# Altium footprint library SamacSys.PcbLib: 13 footprints
Each footprint in its own frame and in the unit in brackets; x right, y up, seen from the top. Pads: shape width x height; smd on the part's side, far side on the other; paste and mask are expansions set on the pad; w line width, h text height; cw(c..) or ccw(c..) is an arc to the next point about the centre after c.
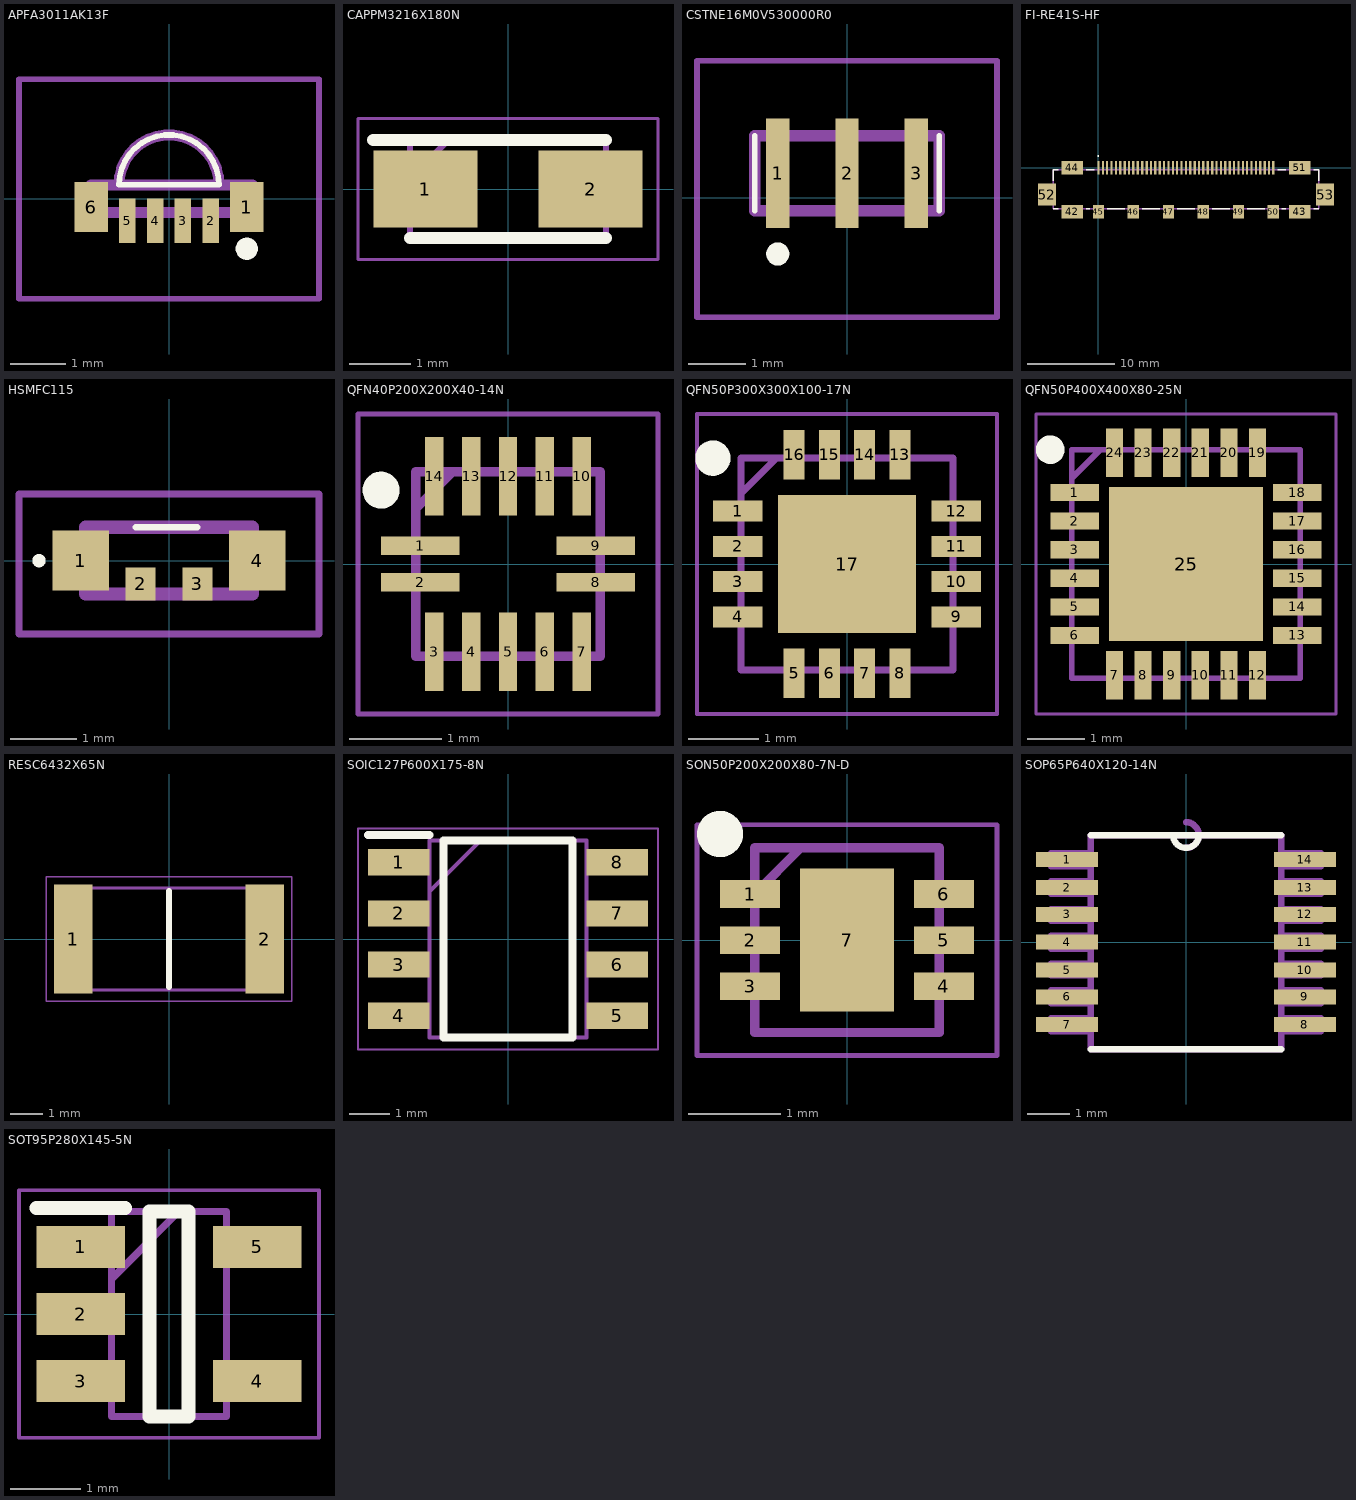
[diagram p0: the footprints below, top view; thin cyan lines are the x and y axes]

## APFA3011AK13F [mm]
pads (6):
  rect 0.6x0.9 smd: 1(1.4,-0.15) 6(-1.4,-0.15)
  rect 0.3x0.8 smd: 2(0.75,-0.4) 3(0.25,-0.4) 4(-0.25,-0.4) 5(-0.75,-0.4)
Top Overlay:
  lines w0.1: -0.9,0.25 cw(c0,0.25) 0.9,0.25 -0.9,0.25
  lines w0.2: 1.3,-0.9 cw(c1.4,-0.9) 1.5,-0.9 cw(c1.4,-0.9) 1.3,-0.9
Mechanical 13:
  lines w0.2: -1.4,-0.25 1.5,-0.25 1.5,0.25 -1.4,0.25 -1.4,-0.25 ; -0.9,0.25 cw(c0,0.25) 0.9,0.25 -0.9,0.25
Mechanical 15:
  lines w0.1: -2.7,-1.8 2.7,-1.8 2.7,2.15 -2.7,2.15 -2.7,-1.8

## CAPPM3216X180N [mm]
pads (2):
  rect 1.7x1.25 smd: 1(-1.35,0) 2(1.35,0)
Top Overlay:
  lines w0.2: -2.2,0.8 1.6,0.8 ; -1.6,-0.8 1.6,-0.8
Mechanical 13:
  lines w0.1: -1.6,0.175 -0.975,0.8 ; -1.6,-0.8 -1.6,0.8 1.6,0.8 1.6,-0.8 -1.6,-0.8
Mechanical 15:
  lines w0.05: -2.45,-1.15 -2.45,1.15 2.45,1.15 2.45,-1.15 -2.45,-1.15
3D body "T491A106M020AT.stp": height 1.8, standoff 0, extent -1.6,-0.8 1.6,0.8

## CSTNE16M0V530000R0 [mm]
pads (3):
  rect 0.4x1.9 smd: 1(-1.2,0.425) 2(0,0.425) 3(1.2,0.425)
Top Overlay:
  lines w0.1: -1.6,-0.225 -1.6,1.075 ; 1.6,-0.225 1.6,1.075
  lines w0.2: -1.3,-0.975 cw(c-1.2,-0.975) -1.1,-0.975 cw(c-1.2,-0.975) -1.3,-0.975
Mechanical 13:
  lines w0.2: -1.6,-0.225 1.6,-0.225 1.6,1.075 -1.6,1.075 -1.6,-0.225
Mechanical 15:
  lines w0.1: -2.6,-2.075 2.6,-2.075 2.6,2.375 -2.6,2.375 -2.6,-2.075

## FI-RE41S-HF [mil]
pads (53):
  rect 10x61 smd: 1(0,0) 2(20,0) 3(39,0) 4(59,0) 5(79,0) 6(98,0) 7(118,0) 8(138,0) 9(157,0) 10(177,0) 11(197,0) 12(217,0) 13(236,0) 14(256,0) 15(276,0) 16(295,0) 17(315,0) 18(335,0) 19(354,0) 20(374,0) 21(394,0) 22(413,0) 23(433,0) 24(453,0) 25(472,0) 26(492,0) 27(512,0) 28(531,0) 29(551,0) 30(571,0) 31(591,0) 32(610,0) 33(630,0) 34(650,0) 35(669,0) 36(689,0) 37(709,0) 38(728,0) 39(748,0) 40(768,0) 41(787,0)
  rect 98x61 smd: 42(-118,-198) 43(906,-198) 44(-118,0) 51(906,0)
  rect 51x61 smd: 45(0,-198) 46(157,-198) 47(315,-198) 48(472,-198) 49(630,-198) 50(787,-198)
  rect 81x98 smd: 52(-232,-121) 53(1020,-121)
Top Overlay:
  circle w3.94: c-0.75,53.15 r1.79
  lines w6: -204,-185 -180,-185 ; -204,-59 -204,-10 -180,-10 ; -56,-185 -39,-185 ; -56,-10 -18,-10 ; 39,-185 119,-185 ; 196,-185 276,-185 ; 354,-185 434,-185 ; 511,-185 591,-185 ; 669,-185 749,-185 ; 806,-10 844,-10 ; 826,-185 844,-185 ; 968,-185 991,-185 ; 968,-10 991,-10 991,-59
Mechanical 13:
  lines w6: -204,-185 991,-185 991,-10 -204,-10 -204,-185

## HSMFC115 [mm]
pads (4):
  rect 0.85x0.9 smd: 1(-1.325,0) 4(1.325,0)
  rect 0.45x0.5 smd: 2(-0.425,-0.35) 3(0.425,-0.35)
Top Overlay:
  lines w0.1: -0.5,0.5 0.425,0.5 ; -2,0 cw(c-1.95,0) -1.9,0 cw(c-1.95,0) -2,0
Mechanical 13:
  lines w0.2: -1.25,-0.5 1.25,-0.5 1.25,0.5 -1.25,0.5 -1.25,-0.5
Mechanical 15:
  lines w0.1: -2.25,-1.1 2.25,-1.1 2.25,1 -2.25,1 -2.25,-1.1
3D body "HSMF-C115.stp": height 1.2, standoff 0, extent -1.25,-0.5 1.25,0.5

## QFN40P200X200X40-14N [mm]
pads (14):
  rect 0.85x0.2 smd: 1(-0.95,0.2) 2(-0.95,-0.2) 8(0.95,-0.2) 9(0.95,0.2)
  rect 0.2x0.85 smd: 3(-0.8,-0.95) 4(-0.4,-0.95) 5(0,-0.95) 6(0.4,-0.95) 7(0.8,-0.95) 10(0.8,0.95) 11(0.4,0.95) 12(0,0.95) 13(-0.4,0.95) 14(-0.8,0.95)
Top Overlay:
  circle w0.2: c-1.375,0.8 r0.1
Mechanical 13:
  lines w0.1: -1,0.6 -0.6,1 ; -1,-1 -1,1 1,1 1,-1 -1,-1
Mechanical 15:
  lines w0.05: -1.625,-1.625 -1.625,1.625 1.625,1.625 1.625,-1.625 -1.625,-1.625
3D body "TPL0102-100RUCR.stp": height 0.4, standoff 0, extent -1.05,-1.05 1.05,1.05

## QFN50P300X300X100-17N [mm]
pads (17):
  rect 0.7x0.3 smd: 1(-1.55,0.75) 2(-1.55,0.25) 3(-1.55,-0.25) 4(-1.55,-0.75) 9(1.55,-0.75) 10(1.55,-0.25) 11(1.55,0.25) 12(1.55,0.75)
  rect 0.3x0.7 smd: 5(-0.75,-1.55) 6(-0.25,-1.55) 7(0.25,-1.55) 8(0.75,-1.55) 13(0.75,1.55) 14(0.25,1.55) 15(-0.25,1.55) 16(-0.75,1.55)
  rect 1.95x1.95 smd: 17(0,0)
Top Overlay:
  circle w0.25: c-1.9,1.5 r0.125
Mechanical 13:
  lines w0.1: -1.5,1 -1,1.5 ; -1.5,-1.5 1.5,-1.5 1.5,1.5 -1.5,1.5 -1.5,-1.5
Mechanical 15:
  lines w0.05: -2.125,-2.125 2.125,-2.125 2.125,2.125 -2.125,2.125 -2.125,-2.125
3D body "HMC981LP3E.stp": height 1, standoff 0, extent -1.55,-1.55 1.55,1.55

## QFN50P400X400X80-25N [mm]
pads (25):
  rect 0.85x0.3 smd: 1(-1.95,1.25) 2(-1.95,0.75) 3(-1.95,0.25) 4(-1.95,-0.25) 5(-1.95,-0.75) 6(-1.95,-1.25) 13(1.95,-1.25) 14(1.95,-0.75) 15(1.95,-0.25) 16(1.95,0.25) 17(1.95,0.75) 18(1.95,1.25)
  rect 0.3x0.85 smd: 7(-1.25,-1.95) 8(-0.75,-1.95) 9(-0.25,-1.95) 10(0.25,-1.95) 11(0.75,-1.95) 12(1.25,-1.95) 19(1.25,1.95) 20(0.75,1.95) 21(0.25,1.95) 22(-0.25,1.95) 23(-0.75,1.95) 24(-1.25,1.95)
  rect 2.7x2.7 smd: 25(0,0)
Top Overlay:
  circle w0.25: c-2.375,2 r0.125
Mechanical 13:
  lines w0.1: -2,1.5 -1.5,2 ; -2,-2 -2,2 2,2 2,-2 -2,-2
Mechanical 15:
  lines w0.05: -2.625,-2.625 -2.625,2.625 2.625,2.625 2.625,-2.625 -2.625,-2.625
3D body "LP55231SQX_NOPB.stp": height 0.8, standoff 0, extent -2.05,-2.05 2.05,2.05

## RESC6432X65N [mm]
pads (2):
  rect 1.2x3.4 smd: 1(-3,0) 2(3,0)
Top Overlay:
  lines w0.2: 0,-1.5 0,1.5
Mechanical 13:
  lines w0.1: -3.175,-1.6 -3.175,1.6 3.175,1.6 3.175,-1.6 -3.175,-1.6
Mechanical 15:
  lines w0.05: -3.85,-1.95 -3.85,1.95 3.85,1.95 3.85,-1.95 -3.85,-1.95
3D body "PT2512FK-070R1L.stp": height 0.65, standoff 0, extent -3.175,-1.6 3.125,1.6

## SOIC127P600X175-8N [mm]
pads (8):
  rect 1.525x0.65 smd: 1(-2.712,1.905) 2(-2.712,0.635) 3(-2.712,-0.635) 4(-2.712,-1.905) 5(2.712,-1.905) 6(2.712,-0.635) 7(2.712,0.635) 8(2.712,1.905)
Top Overlay:
  lines w0.2: -3.475,2.58 -1.95,2.58 ; -1.6,-2.45 -1.6,2.45 1.6,2.45 1.6,-2.45 -1.6,-2.45
Mechanical 13:
  lines w0.1: -1.95,1.18 -0.68,2.45 ; -1.95,-2.45 -1.95,2.45 1.95,2.45 1.95,-2.45 -1.95,-2.45
Mechanical 15:
  lines w0.05: -3.725,-2.75 -3.725,2.75 3.725,2.75 3.725,-2.75 -3.725,-2.75
3D body "NE555DR.stp": height 1.75, standoff 0, extent -3,-2.45 3,2.45

## SON50P200X200X80-7N-D [mm]
pads (7):
  rect 0.65x0.3 smd: 1(-1.05,0.5) 2(-1.05,0) 3(-1.05,-0.5) 4(1.05,-0.5) 5(1.05,0) 6(1.05,0.5)
  rect 1.02x1.55 smd: 7(0,0)
Top Overlay:
  circle w0.25: c-1.375,1.15 r0.125
Mechanical 13:
  lines w0.1: -1,0.5 -0.5,1 ; -1,-1 -1,1 1,1 1,-1 -1,-1
Mechanical 15:
  lines w0.05: -1.625,-1.25 -1.625,1.25 1.625,1.25 1.625,-1.25 -1.625,-1.25
3D body "LDL112PU33R.stp": height 0.8, standoff 0, extent -1.05,-1 1.05,1

## SOP65P640X120-14N [mil]
pads (14):
  rect 58x14 smd: 1(-111,77) 2(-111,51) 3(-111,26) 4(-111,0) 5(-111,-26) 6(-111,-51) 7(-111,-77) 8(111,-77) 9(111,-51) 10(111,-26) 11(111,0) 12(111,26) 13(111,51) 14(111,77)
Top Overlay:
  lines w6: -89,-100 89,-100 ; -89,100 -12,100 ; 89,100 12,100 ; -12,100 ccw(c0,100) 12,100 ; -12,100 12,100
Mechanical 13:
  lines w6: 0,88 ccw(c0,100) 0,112 ; -126,-83 -126,-71 -89,-71 -89,-83 -126,-83 ; -126,-57 -126,-45 -89,-45 -89,-57 -126,-57 ; -126,-31 -126,-20 -89,-20 -89,-31 -126,-31 ; -126,-6 -126,6 -89,6 -89,-6 -126,-6 ; -126,20 -126,31 -89,31 -89,20 -126,20 ; -126,45 -126,57 -89,57 -89,45 -126,45 ; -126,71 -126,83 -89,83 -89,71 -126,71 ; -89,-100 89,-100 89,100 12,100 -12,100 -89,100 -89,-100 ; 89,-83 89,-71 126,-71 126,-83 89,-83 ; 89,-57 89,-45 126,-45 126,-57 89,-57 ; 89,-31 89,-20 126,-20 126,-31 89,-31 ; 89,-6 89,6 126,6 126,-6 89,-6 ; 89,20 89,31 126,31 126,20 89,20 ; 89,45 89,57 126,57 126,45 89,45 ; 89,71 89,83 126,83 126,71 89,71

## SOT95P280X145-5N [mm]
pads (5):
  rect 1.25x0.6 smd: 1(-1.25,0.95) 2(-1.25,0) 3(-1.25,-0.95) 4(1.25,-0.95) 5(1.25,0.95)
Top Overlay:
  lines w0.2: -1.875,1.5 -0.625,1.5 ; -0.275,-1.45 -0.275,1.45 0.275,1.45 0.275,-1.45 -0.275,-1.45
Mechanical 13:
  lines w0.1: -0.812,0.5 0.138,1.45 ; -0.812,-1.45 -0.812,1.45 0.812,1.45 0.812,-1.45 -0.812,-1.45
Mechanical 15:
  lines w0.05: -2.125,-1.75 -2.125,1.75 2.125,1.75 2.125,-1.75 -2.125,-1.75
3D body "MAX40200AUK+T.stp": height 1.45, standoff 0, extent -1.4,-1.45 1.4,1.45